# Altium integrated library Library.IntLib: 629 symbols (part 11 of 21)
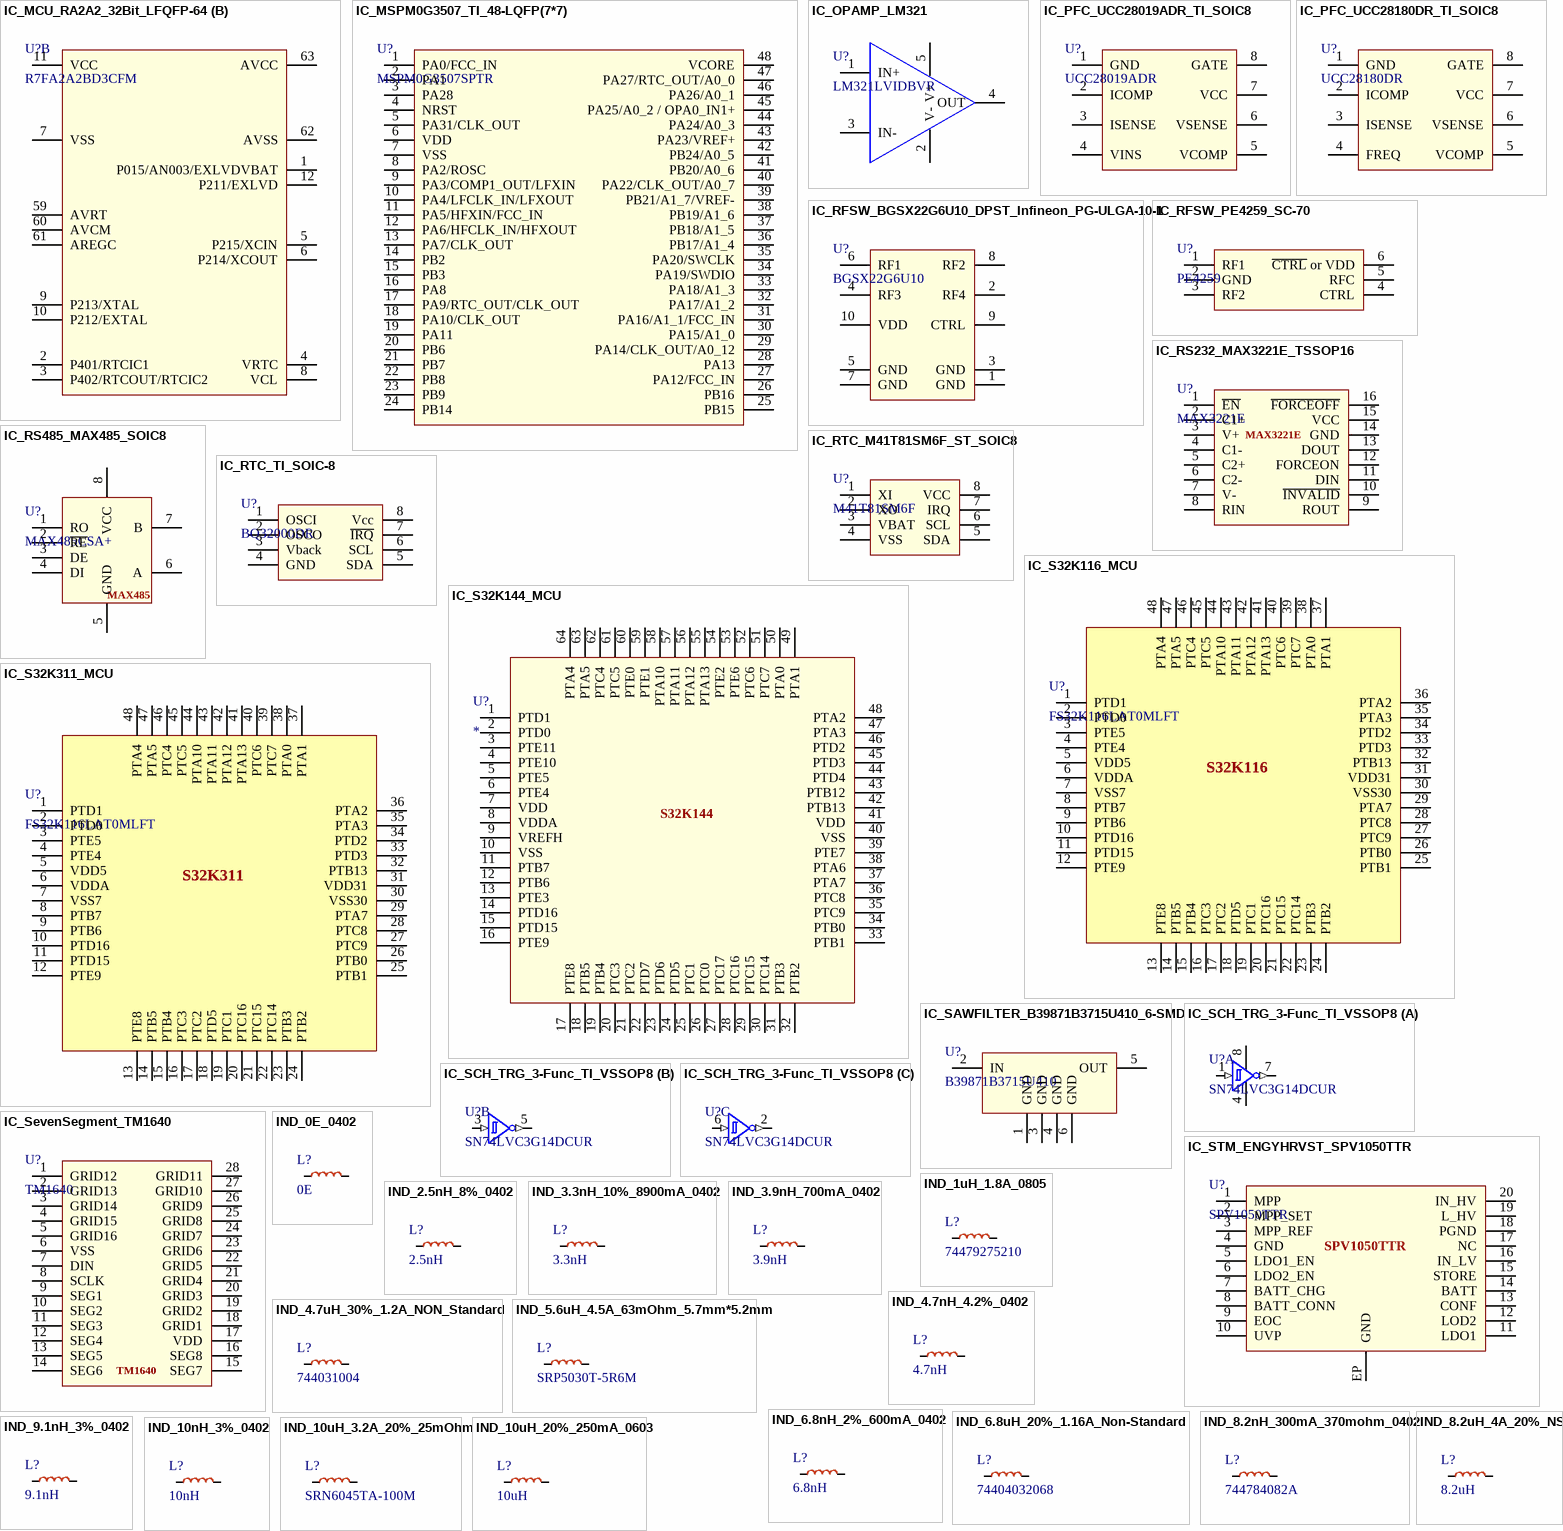
[diagram p28: symbols IC_MCU_RA2A2_32Bit_LFQFP-64 to IND_10uH_20%_250mA_0603]

## IC_RS485_MAX485_SOIC8
designator U?, comment MAX485CSA+
Line Transceiver, 1 Func, 1 Driver, 1 Rcvr, CMOS, PDSO8; Manufacturer: Maxim; Package Body Material: Plastic; Output Polarity: Complementary; Differential Output: Yes; Driver Number of Bits: 1; High Level Input Current-Max: 1mA; Input Characteristics: DIFFERENTIAL SCHMITT TRIGGER; Out Swing-Min: 1.5V; Output Low Current-Max: 4mA; Package Equivalence Code: SOP8,.25; Power Supplies: 5V; Receive Delay-Max: 200ns; Max Supply Current: 900uA; Max Supply Voltage: 5.25V; Min Supply Voltage: 4.75V; Transmit Delay-Max: 60ns; Output Characteristics: 3-STATE; Qualification Status: Not Qualified; Supplier: Mouser; Supplier Part Number: 700-MAX485CSA; Manufacturer Part Number: MAX485CSA+; RoHS: Yes; Category: Buffers, Drivers and Transceivers; Stock: 4091; Pricing: 1=6.21, 10=3.55, 50=3.55, 100=2.92, 1000=2.4, 10000=2.39 (USD); Case/Package: SOP; Pins: 8; Package Shape: Rectangular; Terminal Finish: Tin; Min Operating Temperature: 0°C; Max Operating Temperature: 70°C; JESD-609 Code: e3; Interface IC Type: LINE TRANSCEIVER; JESD-30 Code: R-PDSO-G8; Moisture Sensitivity Level: 1; Channels: 1; Package Style: SMALL OUTLINEMeter; Peak Reflow Temperature (Cel): 260°C; Receiver Number of Bits: 1; Nominal Supply Voltage: 5V; Surface Mount: Yes; Technology: CMOS; Terminal Form: Gull Wing; Terminal Position: DUAL; Length: 4.9mm; Width: 3.9mm; Height - Seated (Max): 1.75mm; Terminal Pitch: 1.27mm; Temperature Grade: COMMERCIAL; Reach SVHC Compliant: Yes; RoHS Compliant: Yes; ComponentLink1URL: https://datasheet.ciiva.com:443/pdfs/VipMasterIC/IC/MAXM/MAXMS13366/MAXMS13366-1.pdf?src-supplier=IHS+Markit; ComponentLink1Description: https://datasheet.ciiva.com:443/pdfs/VipMasterIC/IC/MAXM/MAXMS13366/MAXMS13366-1.pdf?src-supplier=IHS+Markit; ComponentLink2URL: https://datasheet.ciiva.com/29306/170071-da-01-en-ic-max485csa-so8-29306144.pdf?src-supplier=Conrad; ComponentLink2Description: https://datasheet.ciiva.com/29306/170071-da-01-en-ic-max485csa-so8-29306144.pdf?src-supplier=Conrad; ComponentLink3URL: https://datasheet.ciiva.com/14152/jwmax481-491-data-e-14152715.pdf?src-supplier=Distrelec; ComponentLink3Description: https://datasheet.ciiva.com/14152/jwmax481-491-data-e-14152715.pdf?src-supplier=Distrelec; ComponentLink4URL: https://datasheet.ciiva.com/3028/max1487-max491-3028651.pdf?src-supplier=Avnet; ComponentLink4Description: https://datasheet.ciiva.com/3028/max1487-max491-3028651.pdf?src-supplier=Avnet; ComponentLink5URL: https://datasheet.ciiva.com/1712/max1487-max491-1712621.pdf?src-supplier=Digikey; ComponentLink5Description: https://datasheet.ciiva.com/1712/max1487-max491-1712621.pdf?src-supplier=Digikey
footprint SO-8 (1.27mm pitch)
pins: 1 RO, 2 ~{RE}, 3 DE, 4 DI, 5 GND, 6 A, 7 B, 8 VCC
text: MAX485

## IC_RTC_M41T81SM6F_ST_SOIC8
designator U?, comment M41T81SM6F
Real Time Clock, Volatile, 1 Timer(s), CMOS, PDSO8; Manufacturer: STMicroelectronics; Package Body Material: Plastic; Clock Frequency: 32kHz; Number of Timers/Counters: 1; Package Equivalence Code: SOP8,.25; Power Supplies: 3/5V; Max Supply Voltage: 5.5V; Min Supply Voltage: 2.7V; Nominal Supply Voltage: 5V; Time @ Peak Reflow Temperature-Max (s): 30s; Qualification Status: Not Qualified; Supplier: Mouser; Supplier Part Number: 511-M41T81SM6F; Manufacturer Part Number: M41T81SM6F; RoHS: Yes; Category: Real Time Clocks; Stock: 19773; Pricing: 1=2.87, 10=1.96, 50=1.96, 100=1.77, 1000=1.56, 10000=1.41 (USD); Case/Package: SOP; Pins: 8; Package Shape: Rectangular; Terminal Finish: Nickel; Min Operating Temperature: -40°C; Max Operating Temperature: 85°C; JESD-609 Code: e4; JESD-30 Code: R-PDSO-G8; Moisture Sensitivity Level: 1; Package Style: SMALL OUTLINEMeter; Peak Reflow Temperature (Cel): 260°C; Surface Mount: Yes; Technology: CMOS; Terminal Form: Gull Wing; Terminal Position: DUAL; Length: 4.9mm; Width: 3.9mm; Height - Seated (Max): 1.75mm; Terminal Pitch: 1.27mm; Temperature Grade: INDUSTRIAL; Reach SVHC Compliant: Yes; RoHS Compliant: Yes; ComponentLink1URL: https://datasheet.ciiva.com:443/pdfs/VipMasterIC/IC/SGST/SGSTS32450/SGSTS32450-1.pdf?src-supplier=IHS+Markit; ComponentLink1Description: https://datasheet.ciiva.com:443/pdfs/VipMasterIC/IC/SGST/SGSTS32450/SGSTS32450-1.pdf?src-supplier=IHS+Markit; ComponentLink2URL: https://datasheet.ciiva.com/4772/cd00043080-111671-4772129.pdf?src-supplier=Mouser; ComponentLink2Description: https://datasheet.ciiva.com/4772/cd00043080-111671-4772129.pdf?src-supplier=Mouser; ComponentLink3URL: https://datasheet.ciiva.com/23806/cd00043080-23806640.pdf?src-supplier=Newark; ComponentLink3Description: https://datasheet.ciiva.com/23806/cd00043080-23806640.pdf?src-supplier=Newark; ComponentLink4URL: https://datasheet.ciiva.com/48465/cd00043080-48465097.pdf?src-supplier=Avnet; ComponentLink4Description: https://datasheet.ciiva.com/48465/cd00043080-48465097.pdf?src-supplier=Avnet; ComponentLink5URL: https://datasheet.ciiva.com/16219/cd00043080-16219615.pdf?src-supplier=Future+Electronics; ComponentLink5Description: https://datasheet.ciiva.com/16219/cd00043080-16219615.pdf?src-supplier=Future+Electronics
footprint SO-8 (1.27mm pitch)
pins: 1 XI, 2 XO, 3 VBAT, 4 VSS, 5 SDA, 6 SCL, 7 IRQ, 8 VCC

## IC_RTC_TI_SOIC-8
designator U?, comment BQ32000DR
Real Time Clock, Non-Volatile, CMOS, PDSO8; Manufacturer: Texas Instruments; Package Body Material: Plastic; Clock Frequency: 32kHz; Package Equivalence Code: SOP8,.25; Power Supplies: 3.3V; Max Supply Voltage: 3.6V; Min Supply Voltage: 3V; Qualification Status: Not Qualified; Supplier: Mouser; Supplier Part Number: 595-BQ32000DR; Manufacturer Part Number: BQ32000DR; RoHS: Yes; Category: Real Time Clocks; Stock: 9245; Pricing: 1=1.54, 10=0.986, 50=0.986, 100=0.798, 1000=0.71, 10000=0.637 (USD); Case/Package: SOP; Pins: 8; Package Shape: Rectangular; Terminal Finish: Nickel; Min Operating Temperature: -40°C; Max Operating Temperature: 85°C; JESD-609 Code: e4; JESD-30 Code: R-PDSO-G8; Moisture Sensitivity Level: 1; Package Style: SMALL OUTLINEMeter; Peak Reflow Temperature (Cel): 260°C; Nominal Supply Voltage: 3.3V; Surface Mount: Yes; Technology: CMOS; Terminal Form: Gull Wing; Terminal Position: DUAL; Length: 4.9mm; Width: 3.9mm; Height - Seated (Max): 1.75mm; Terminal Pitch: 1.27mm; Temperature Grade: INDUSTRIAL; Reach SVHC Compliant: Yes; RoHS Compliant: Yes; ComponentLink1URL: https://www.ti.com:443/lit/ds/symlink/bq32000.pdf?src-supplier=IHS+Markit; ComponentLink1Description: https://www.ti.com:443/lit/ds/symlink/bq32000.pdf?src-supplier=IHS+Markit; ComponentLink2URL: https://datasheet.ciiva.com/1138/1759629-1138532.pdf?src-supplier=Element14; ComponentLink2Description: https://datasheet.ciiva.com/1138/1759629-1138532.pdf?src-supplier=Element14; ComponentLink3URL: https://datasheet.ciiva.com/6666/bq32000-6666838.pdf?src-supplier=Digikey; ComponentLink3Description: https://datasheet.ciiva.com/6666/bq32000-6666838.pdf?src-supplier=Digikey; ComponentLink4URL: https://datasheet.ciiva.com/1146/bq32000-1146039.pdf?src-supplier=Newark; ComponentLink4Description: https://datasheet.ciiva.com/1146/bq32000-1146039.pdf?src-supplier=Newark; ComponentLink5URL: https://datasheet.ciiva.com/3304/bq32000-3304427.pdf?src-supplier=Avnet; ComponentLink5Description: https://datasheet.ciiva.com/3304/bq32000-3304427.pdf?src-supplier=Avnet
footprint SO-8 (1.27mm pitch)
pins: 1 OSCI, 2 OSCO, 3 Vback, 4 GND, 5 SDA, 6 SCL, 7 ~{IRQ}, 8 Vcc

## IC_S32K116_MCU
designator U?, comment FS32K116LAT0MLFT
MCU 32-Bit S32K116 ARM Cortex-M0+ RISC 128KB Flash 2.7V to 5.5V 48-Pin LQFP Tray; Manufacturer: NXP Semiconductors; Supplier 1: Digi-Key; Manufacturer Part Number: FS32K116LAT0MLFT; RoHS: Yes; Category: Microcontrollers; Stock 1: 1; Pricing 1: 1=23.54, 10=18.877, 80=16.11963, 500=15.9075 (USD); Supplier Part Number 1: 568-14729-ND
footprint S32K116_48PIN
pins: 1 PTD1, 2 PTD0, 3 PTE5, 4 PTE4, 5 VDD5, 6 VDDA, 7 VSS7, 8 PTB7, 9 PTB6, 10 PTD16, 11 PTD15, 12 PTE9, 13 PTE8, 14 PTB5, 15 PTB4, 16 PTC3, 17 PTC2, 18 PTD5, 19 PTC1, 20 PTC16, 21 PTC15, 22 PTC14, 23 PTB3, 24 PTB2, 25 PTB1, 26 PTB0, 27 PTC9, 28 PTC8, 29 PTA7, 30 VSS30, 31 VDD31, 32 PTB13, 33 PTD3, 34 PTD2, 35 PTA3, 36 PTA2, 37 PTA1, 38 PTA0, 39 PTC7, 40 PTC6, 41 PTA13, 42 PTA12, 43 PTA11, 44 PTA10, 45 PTC5, 46 PTC4, 47 PTA5, 48 PTA4
text: S32K116

## IC_S32K144_MCU
designator U?
footprint LQFP_64 (S32K144 0.5mm Pitch)
pins: 1 PTD1, 2 PTD0, 3 PTE11, 4 PTE10, 5 PTE5, 6 PTE4, 7 VDD, 8 VDDA, 9 VREFH, 10 VSS, 11 PTB7, 12 PTB6, 13 PTE3, 14 PTD16, 15 PTD15, 16 PTE9, 17 PTE8, 18 PTB5, 19 PTB4, 20 PTC3, 21 PTC2, 22 PTD7, 23 PTD6, 24 PTD5, 25 PTC1, 26 PTC0, 27 PTC17, 28 PTC16, 29 PTC15, 30 PTC14, 31 PTB3, 32 PTB2, 33 PTB1, 34 PTB0, 35 PTC9, 36 PTC8, 37 PTA7, 38 PTA6, 39 PTE7, 40 VSS, 41 VDD, 42 PTB13, 43 PTB12, 44 PTD4, 45 PTD3, 46 PTD2, 47 PTA3, 48 PTA2, 49 PTA1, 50 PTA0, 51 PTC7, 52 PTC6, 53 PTE6, 54 PTE2, 55 PTA13, 56 PTA12, 57 PTA11, 58 PTA10, 59 PTE1, 60 PTE0, 61 PTC5, 62 PTC4, 63 PTA5, 64 PTA4
text: S32K144

## IC_S32K311_MCU
designator U?, comment FS32K116LAT0MLFT
MCU 32-Bit S32K116 ARM Cortex-M0+ RISC 128KB Flash 2.7V to 5.5V 48-Pin LQFP Tray; Manufacturer: NXP Semiconductors; Supplier 1: Digi-Key; Manufacturer Part Number: FS32K116LAT0MLFT; RoHS: Yes; Category: Microcontrollers; Stock 1: 1; Pricing 1: 1=23.54, 10=18.877, 80=16.11963, 500=15.9075 (USD); Supplier Part Number 1: 568-14729-ND
footprint S32K116_48PIN
pins: 1 PTD1, 2 PTD0, 3 PTE5, 4 PTE4, 5 VDD5, 6 VDDA, 7 VSS7, 8 PTB7, 9 PTB6, 10 PTD16, 11 PTD15, 12 PTE9, 13 PTE8, 14 PTB5, 15 PTB4, 16 PTC3, 17 PTC2, 18 PTD5, 19 PTC1, 20 PTC16, 21 PTC15, 22 PTC14, 23 PTB3, 24 PTB2, 25 PTB1, 26 PTB0, 27 PTC9, 28 PTC8, 29 PTA7, 30 VSS30, 31 VDD31, 32 PTB13, 33 PTD3, 34 PTD2, 35 PTA3, 36 PTA2, 37 PTA1, 38 PTA0, 39 PTC7, 40 PTC6, 41 PTA13, 42 PTA12, 43 PTA11, 44 PTA10, 45 PTC5, 46 PTC4, 47 PTA5, 48 PTA4
text: S32K311

## IC_SAWFILTER_B39871B3715U410_6-SMD
designator U?, comment B39871B3715U410
SAW Filter, 1 Function(s), 869MHz, 6 Pin(s), Ceramic; Manufacturer: TDK EPCOS; Input Impedance: 50R; Insertion Loss-Max: 3.3dB; Channels: 1; Supplier: Farnell; Supplier Part Number: 2309080RL; Manufacturer Part Number: B39871B3715U410; RoHS: Yes; Category: EMI / RFI Components; Pricing: 100=0.846, 200=0.787, 1000=0.681 (GBP); Mounting Technology: Surface Mount; Pins: 6; Package Material: Ceramic; Terminal Finish: Gold; Min Operating Temperature: -40°C; Max Operating Temperature: 85°C; JESD-609 Code: e4; Center or Cutoff Frequency (fo/fc): 869MHz; Filter Type: SAW FILTER; Output Impedance: 50R; Length: 3mm; Width: 3mm; Height: 1.1mm; Reach SVHC Compliant: Yes; RoHS Compliant: Yes; ComponentLink1URL: https://datasheet.ciiva.com:443/pdfs/VipMasterIC/IC/EPCO/EPCOS16633/EPCOS16633-1.pdf?src-supplier=IHS+Markit; ComponentLink1Description: https://datasheet.ciiva.com:443/pdfs/VipMasterIC/IC/EPCO/EPCOS16633/EPCOS16633-1.pdf?src-supplier=IHS+Markit; ComponentLink2URL: https://datasheet.ciiva.com/11804/0900766b805368d5-11804553.pdf?src-supplier=Rs; ComponentLink2Description: https://datasheet.ciiva.com/11804/0900766b805368d5-11804553.pdf?src-supplier=Rs; ComponentLink3URL: https://datasheet.ciiva.com/4548/b3715-84099-4548240.pdf?src-supplier=Mouser; ComponentLink3Description: https://datasheet.ciiva.com/4548/b3715-84099-4548240.pdf?src-supplier=Mouser; ComponentLink4URL: https://datasheet.ciiva.com/6203/b39871b3715u410-6203338.pdf?src-supplier=Digikey; ComponentLink4Description: https://datasheet.ciiva.com/6203/b39871b3715u410-6203338.pdf?src-supplier=Digikey; ComponentLink5URL: https://datasheet.ciiva.com/6203/b39871b3715u410-6203342.pdf?src-supplier=Digikey; ComponentLink5Description: https://datasheet.ciiva.com/6203/b39871b3715u410-6203342.pdf?src-supplier=Digikey
footprint B39871B3715U410_6-SMD
pins: 1 GND, 2 IN, 3 GND, 4 GND, 5 OUT, 6 GND

## IC_SCH_TRG_3-Func_TI_VSSOP8
designator U?, comment SN74LVC3G14DCUR
Inverter, LVC/LCX/Z Series, 3-Func, 1-Input, CMOS, PDSO8; Manufacturer: Texas Instruments; Package Body Material: Plastic; Load Capacitance (CL): 50pF; Load/Preset Input: Yes; Max I(ol): 24mA; Channels: 3; Number of Inputs: 1; Power Supplies: 3.3V; Prop. Delay@Nom-Sup: 5.4ns; Propagation Delay (tpd): 9.7ns; Max Supply Voltage: 5.5V; Min Supply Voltage: 1.65V; Nominal Supply Voltage: 1.8V; Qualification Status: Not Qualified; Supplier: Mouser; Supplier Part Number: 595-SN74LVC3G14DCUR; Manufacturer Part Number: SN74LVC3G14DCUR; RoHS: Yes; Category: Logic Gates; Stock: 58804; Pricing: 1=0.34, 10=0.239, 50=0.22, 100=0.19, 1000=0.151, 10000=0.142 (USD); Case/Package: VSSOP; Pins: 8; Package Shape: Rectangular; Terminal Finish: Nickel; Min Operating Temperature: -40°C; Max Operating Temperature: 125°C; JESD-30 Code: R-PDSO-G8; Logic Type: INVERTER; Package Style: SMALL OUTLINE, VERY THIN PROFILE, SHRINK PITCHMeter; Packaging: Tape and Reel; Schmitt Trigger: Yes; Surface Mount: Yes; Technology: CMOS; Terminal Form: Gull Wing; Terminal Position: DUAL; JESD-609 Code: e4; Moisture Sensitivity Level: 1; Peak Reflow Temperature (Cel): 260°C; Length: 2.3mm; Width: 2mm; Height - Seated (Max): 0.9mm; Terminal Pitch: 0.5mm; Temperature Grade: AUTOMOTIVE; Reach SVHC Compliant: Yes; RoHS Compliant: Yes; ComponentLink1URL: https://www.ti.com:443/lit/ds/symlink/sn74lvc3g14.pdf?src-supplier=IHS+Markit; ComponentLink1Description: https://www.ti.com:443/lit/ds/symlink/sn74lvc3g14.pdf?src-supplier=IHS+Markit; ComponentLink2URL: https://datasheet.ciiva.com/15089/getdatasheetpartid-306358-15089584.pdf?src-supplier=Verical; ComponentLink2Description: https://datasheet.ciiva.com/15089/getdatasheetpartid-306358-15089584.pdf?src-supplier=Verical; ComponentLink3URL: https://datasheet.ciiva.com/6124/1768096-6124835.pdf?src-supplier=Farnell; ComponentLink3Description: https://datasheet.ciiva.com/6124/1768096-6124835.pdf?src-supplier=Farnell; ComponentLink4URL: https://datasheet.ciiva.com/7783/1768096-7783558.pdf?src-supplier=Element14; ComponentLink4Description: https://datasheet.ciiva.com/7783/1768096-7783558.pdf?src-supplier=Element14; ComponentLink5URL: https://datasheet.ciiva.com/1865/sn74lvc3g14-1865828.pdf?src-supplier=Digikey; ComponentLink5Description: https://datasheet.ciiva.com/1865/sn74lvc3g14-1865828.pdf?src-supplier=Digikey; ComponentLink6URL: https://datasheet.ciiva.com/14288/sn74lvc3g14-14288332.pdf?src-supplier=Avnet; ComponentLink6Description: https://datasheet.ciiva.com/14288/sn74lvc3g14-14288332.pdf?src-supplier=Avnet; ComponentLink7URL: https://datasheet.ciiva.com/14288/sn74lvc3g14-14288331.pdf?src-supplier=Avnet; ComponentLink7Description: https://datasheet.ciiva.com/14288/sn74lvc3g14-14288331.pdf?src-supplier=Avnet; ComponentLink8URL: https://datasheet.ciiva.com/7783/1768096-7783557.pdf?src-supplier=Element14; ComponentLink8Description: https://datasheet.ciiva.com/7783/1768096-7783557.pdf?src-supplier=Element14; ComponentLink9URL: https://datasheet.ciiva.com/46383/1847417-46383190.pdf?src-supplier=Element14; ComponentLink9Description: https://datasheet.ciiva.com/46383/1847417-46383190.pdf?src-supplier=Element14; ComponentLink10URL: https://datasheet.ciiva.com/1865/sn74lvc3g14-1865827.pdf?src-supplier=Digikey; ComponentLink10Description: https://datasheet.ciiva.com/1865/sn74lvc3g14-1865827.pdf?src-supplier=Digikey; ComponentLink11URL: https://datasheet.ciiva.com/1865/sn74lvc3g14-1865829.pdf?src-supplier=Digikey; ComponentLink11Description: https://datasheet.ciiva.com/1865/sn74lvc3g14-1865829.pdf?src-supplier=Digikey
footprint VSSOP-8
part A pins: 1 1A (in), 4 GND, 7 1Y (out), 8 VCC
part B pins: 3 2A (in), 5 2Y (out)
part C pins: 2 3Y (out), 6 3A (in)

## IC_SevenSegment_TM1640
designator U?, comment TM1640
pins: 1 GRID12, 2 GRID13, 3 GRID14, 4 GRID15, 5 GRID16, 6 VSS, 7 DIN, 8 SCLK, 9 SEG1, 10 SEG2, 11 SEG3, 12 SEG4, 13 SEG5, 14 SEG6, 15 SEG7, 16 SEG8, 17 VDD, 18 GRID1, 19 GRID2, 20 GRID3, 21 GRID4, 22 GRID5, 23 GRID6, 24 GRID7, 25 GRID8, 26 GRID9, 27 GRID10, 28 GRID11

## IC_STM_ENGYHRVST_SPV1050TTR
designator U?, comment SPV1050TTR
Charger IC Multi-Chemistry 20-VFQFPN (3x3); Manufacturer: STMicroelectronics; Adjustable Threshold: No; Throw Configuration: POWER SUPPLY SUPPORT CIRCUIT; Number of Channels: 1; Max Supply Voltage: 5.3V; Min Supply Voltage: 2.2V; Supplier: Arrow Electronics; Supplier Part Number: SPV1050TTR; Manufacturer Part Number: SPV1050TTR; RoHS: Yes; Category: Battery Management; Stock: 35990; Pricing: 1=3.088, 10=2.25, 100=2.02, 250=1.903, 500=1.827, 1000=1.731, 2500=1.702, 4000=1.629 (USD); Case/Package: HVQCCN; Pins: 20; Package Shape: Square; Min Operating Temperature: -40°C; Max Operating Temperature: 85°C; JESD-30 Code: S-XQCC-N20; Channels: 1; Package Style: CHIP CARRIER, HEAT SINK/SLUG, VERY THIN PROFILEMeter; Surface Mount: Yes; Terminal Form: No Lead; Terminal Position: QUAD; Length: 3mm; Width: 3mm; Height - Seated (Max): 1mm; Terminal Pitch: 0.4mm; Temperature Grade: INDUSTRIAL; Reach SVHC Compliant: Yes; RoHS Compliant: Yes; ComponentLink1URL: https://datasheet.ciiva.com:443/pdfs/VipMasterIC/IC/SGST/SGST-S-A0005002397/SGST-S-A0005002397-1.pdf?src-supplier=IHS+Markit; ComponentLink1Description: https://datasheet.ciiva.com:443/pdfs/VipMasterIC/IC/SGST/SGST-S-A0005002397/SGST-S-A0005002397-1.pdf?src-supplier=IHS+Markit; ComponentLink2URL: http://www.farnell.com/datasheets/2291180.pdf?src-supplier=Farnell; ComponentLink2Description: http://www.farnell.com/datasheets/2291180.pdf?src-supplier=Farnell; ComponentLink3URL: http://www.mouser.com/ds/2/389/spv1050-974147.pdf?src-supplier=Mouser; ComponentLink3Description: http://www.mouser.com/ds/2/389/spv1050-974147.pdf?src-supplier=Mouser; ComponentLink4URL: http://www.st.com/content/ccc/resource/technical/document/datasheet/3e/91/0f/7c/32/3e/46/dd/DM00100984.pdf/files/DM00100984.pdf/jcr:content/translations/en.DM00100984.pdf?src-supplier=Digikey; ComponentLink4Description: http://www.st.com/content/ccc/resource/technical/document/datasheet/3e/91/0f/7c/32/3e/46/dd/DM00100984.pdf/files/DM00100984.pdf/jcr:content/translations/en.DM00100984.pdf?src-supplier=Digikey; ComponentLink5URL: http://www.st.com/web/en/resource/technical/document/datasheet/DM00100984.pdf?src-supplier=Avnet; ComponentLink5Description: http://www.st.com/web/en/resource/technical/document/datasheet/DM00100984.pdf?src-supplier=Avnet; ComponentLink6URL: http://www.farnell.com/datasheets/2291180.pdf?src-supplier=Newark; ComponentLink6Description: http://www.farnell.com/datasheets/2291180.pdf?src-supplier=Newark; ComponentLink7URL: https://datasheet.octopart.com/SPV1050TTR-STMicroelectronics-datasheet-21100225.pdf?src-supplier=Future+Electronics; ComponentLink7Description: https://datasheet.octopart.com/SPV1050TTR-STMicroelectronics-datasheet-21100225.pdf?src-supplier=Future+Electronics; ComponentLink8URL: https://datasheet.octopart.com/SPV1050TTR-STMicroelectronics-datasheet-82987336.pdf?src-supplier=SHENGYU+ELECTRONICS; ComponentLink8Description: https://datasheet.octopart.com/SPV1050TTR-STMicroelectronics-datasheet-82987336.pdf?src-supplier=SHENGYU+ELECTRONICS
footprint VFQFPN20 (3mm*3mm*1mm 20 lead 0.4mm pitch)
pins: 1 MPP, 2 MPP_SET, 3 MPP_REF, 4 GND, 5 LDO1_EN, 6 LDO2_EN, 7 BATT_CHG, 8 BATT_CONN, 9 EOC, 10 UVP, 11 LDO1, 12 LOD2, 13 CONF, 14 BATT, 15 STORE, 16 IN_LV, 17 NC, 18 PGND, 19 L_HV, 20 IN_HV, EP GND

## IND_0E_0402
designator L?, comment 0E
Inductor 0E
footprint RES_0402
pins: 1, 2 1

## IND_1uH_1.8A_0805
designator L?, comment 74479275210
General Purpose Inductor; Manufacturer: Wurth Electronics; Supplier: Digikey; Supplier Part Number: 732-9707-1-ND; Manufacturer Part Number: 74479275210; RoHS: Yes; Category: Fixed Inductors; Stock: 7843; Pricing: 1=1.14, 50=0.9504, 100=0.8235, 1000=0.7488 (USD); Inductor Type: GENERAL PURPOSE INDUCTOR; Reach SVHC Compliant: Yes; RoHS Compliant: Yes; ComponentLink1URL: https://datasheet.ciiva.com:443/pdfs/VipMasterIC/IC/MIDC/MIDC-S-A0003062405/MIDC-S-A0003062405-1.pdf?src-supplier=IHS+Markit; ComponentLink1Description: https://datasheet.ciiva.com:443/pdfs/VipMasterIC/IC/MIDC/MIDC-S-A0003062405/MIDC-S-A0003062405-1.pdf?src-supplier=IHS+Markit; ComponentLink2URL: https://www.mouser.com/ds/2/445/74479275210-846428.pdf?src-supplier=Mouser; ComponentLink2Description: https://www.mouser.com/ds/2/445/74479275210-846428.pdf?src-supplier=Mouser; ComponentLink3URL: http://www.farnell.com/datasheets/2040023.pdf?src-supplier=Farnell; ComponentLink3Description: http://www.farnell.com/datasheets/2040023.pdf?src-supplier=Farnell; ComponentLink4URL: http://www.farnell.com/datasheets/2040023.pdf?src-supplier=Element14; ComponentLink4Description: http://www.farnell.com/datasheets/2040023.pdf?src-supplier=Element14; ComponentLink5URL: https://katalog.we-online.de/pbs/datasheet/74479275210.pdf?src-supplier=Digikey; ComponentLink5Description: https://katalog.we-online.de/pbs/datasheet/74479275210.pdf?src-supplier=Digikey
footprint RES_0805
pins: 1, 2 1

## IND_2.5nH_8%_0402
designator L?, comment 2.5nH
General Purpose Inductor, 0.0025uH, 8%, 1 Element, Alumina-Core, SMD, 0402; Manufacturer: Murata; Manufacturer Part Number: LQW15AN2N5C00D; Case/Size Code: 0402; DC Resistance (DCR): 50mR; Inductor Application: RF INDUCTOR; Channels: 1; Quality Factor-Min (at L-nom): 20; Max Current Rating: 850mA; Self Resonant Frequency: 15GHz; Shape/Size Description: RECTANGULAR PACKAGE; Shielding: Unshielded; Test Frequency: 100MHz; Package Height: 0.5mm; Package Length: 1mm; Package Width: 0.6mm; Supplier: Mouser; Supplier Part Number: 81-LQW15AN2N5C00D; RoHS: Yes; Category: Fixed Inductors; Stock: 23249; Pricing: 1=0.1, 10=0.061, 50=0.061, 100=0.05, 1000=0.046, 10000=0.039 (USD); Pins: 2; Core Material: Alumina; Terminal Finish: Nickel; Min Operating Temperature: -55°C; Max Operating Temperature: 125°C; Tolerance: 8%; JESD-609 Code: e3; Construction: Wirewound Chip; Inductance-Nom (L): 0.0025uH; Inductor Type: GENERAL PURPOSE INDUCTOR; Package Style: SMTMeter; Packaging: Tape and Reel; Surface Mount: Yes; Terminal Placement: Dual Ended; Termination: One Surface; Reach SVHC Compliant: Yes; RoHS Compliant: Yes; ComponentLink1URL: https://datasheet.ciiva.com:443/pdfs/VipMasterIC/IC/MURE/MURE-S-A0004390706/MURE-S-A0004390650-1.pdf?src-supplier=IHS+Markit; ComponentLink1Description: https://datasheet.ciiva.com:443/pdfs/VipMasterIC/IC/MURE/MURE-S-A0004390706/MURE-S-A0004390650-1.pdf?src-supplier=IHS+Markit; ComponentLink2URL: https://datasheet.ciiva.com/6705/l0075s0080lqw15a-00-6705365.pdf?src-supplier=Digikey; ComponentLink2Description: https://datasheet.ciiva.com/6705/l0075s0080lqw15a-00-6705365.pdf?src-supplier=Digikey; ComponentLink3URL: https://datasheet.ciiva.com/6705/l0075s0080lqw15a-00-6705366.pdf?src-supplier=Digikey; ComponentLink3Description: https://datasheet.ciiva.com/6705/l0075s0080lqw15a-00-6705366.pdf?src-supplier=Digikey; ComponentLink4URL: https://datasheet.ciiva.com/8507/l0075s0080lqw15a-00-8507644.pdf?src-supplier=Avnet; ComponentLink4Description: https://datasheet.ciiva.com/8507/l0075s0080lqw15a-00-8507644.pdf?src-supplier=Avnet; ComponentLink5URL: https://datasheet.ciiva.com/4977/product-4977756.pdf?src-supplier=Mouser; ComponentLink5Description: https://datasheet.ciiva.com/4977/product-4977756.pdf?src-supplier=Mouser
footprint RES_0402
pins: 1, 2 1

## IND_3.3nH_10%_8900mA_0402
designator L?, comment 3.3nH
General Purpose Inductor, 0.0033uH, 9.091%, 1 Element, Air-Core, SMD, 0402; Manufacturer: Murata; Manufacturer Part Number: LQG15HS3N3S02D; Core Material: Air; Case/Size Code: 0402; DC Resistance (DCR): 125mR; Inductor Application: RF INDUCTOR; Channels: 1; Quality Factor-Min (at L-nom): 8; Max Current Rating: 800mA; Self Resonant Frequency: 6GHz; Shape/Size Description: RECTANGULAR PACKAGE; Shielding: Unshielded; Test Frequency: 100MHz; Package Height: 0.5mm; Package Length: 1mm; Supplier: Mouser; Supplier Part Number: 81-LQG15HS3N3S02D; RoHS: Yes; Category: Fixed Inductors; Stock: 23881; Pricing: 1=0.1, 10=0.039, 50=0.039, 100=0.03, 1000=0.028, 10000=0.02 (USD); Pins: 2; Terminal Finish: Nickel; Min Operating Temperature: -55°C; Max Operating Temperature: 125°C; Tolerance: 9.091%; JESD-609 Code: e3; Construction: Multilayer Chip; Inductance-Nom (L): 0.0033uH; Inductor Type: GENERAL PURPOSE INDUCTOR; Package Style: SMTMeter; Packaging: Tape and Reel; Surface Mount: Yes; Terminal Placement: Dual Ended; Termination: Wraparound; Package Width: 0.5mm; Reach SVHC Compliant: Yes; RoHS Compliant: Yes; ComponentLink1URL: https://datasheet.ciiva.com:443/pdfs/VipMasterIC/IC/MURE/MURE-S-A0004278247/MURE-S-A0004278708-1.pdf?src-supplier=IHS+Markit; ComponentLink1Description: https://datasheet.ciiva.com:443/pdfs/VipMasterIC/IC/MURE/MURE-S-A0004278247/MURE-S-A0004278708-1.pdf?src-supplier=IHS+Markit; ComponentLink2URL: https://datasheet.ciiva.com/11799/0900766b8090d685-11799072.pdf?src-supplier=Rs; ComponentLink2Description: https://datasheet.ciiva.com/11799/0900766b8090d685-11799072.pdf?src-supplier=Rs; ComponentLink3URL: https://datasheet.ciiva.com/1038/l0075s0083lqg15hs-1038143.pdf?src-supplier=Digikey; ComponentLink3Description: https://datasheet.ciiva.com/1038/l0075s0083lqg15hs-1038143.pdf?src-supplier=Digikey; ComponentLink4URL: https://datasheet.ciiva.com/1038/l0075s0083lqg15hs-1038142.pdf?src-supplier=Digikey; ComponentLink4Description: https://datasheet.ciiva.com/1038/l0075s0083lqg15hs-1038142.pdf?src-supplier=Digikey; ComponentLink5URL: https://datasheet.ciiva.com/4976/o05e-4976661.pdf?src-supplier=Mouser; ComponentLink5Description: https://datasheet.ciiva.com/4976/o05e-4976661.pdf?src-supplier=Mouser; ComponentLink6URL: https://datasheet.ciiva.com/26821/getdatasheetpartid-200403-26821446.pdf?src-supplier=Verical; ComponentLink6Description: https://datasheet.ciiva.com/26821/getdatasheetpartid-200403-26821446.pdf?src-supplier=Verical; ComponentLink7URL: https://datasheet.ciiva.com/1038/l0075s0083lqg15hs-1038144.pdf?src-supplier=Digikey; ComponentLink7Description: https://datasheet.ciiva.com/1038/l0075s0083lqg15hs-1038144.pdf?src-supplier=Digikey
footprint RES_0402
pins: 1, 2 1

## IND_3.9nH_700mA_0402
designator L?, comment 3.9nH
General Purpose Inductor, 0.0039uH, 7.692%, 1 Element, Air-Core, SMD, 0402; Manufacturer: Murata; Manufacturer Part Number: LQG15HN3N9S02D; Core Material: Air; Case/Size Code: 0402; DC Resistance (DCR): 130mR; Inductor Application: RF INDUCTOR; Channels: 1; Quality Factor-Min (at L-nom): 8; Max Current Rating: 700mA; Self Resonant Frequency: 6GHz; Shape/Size Description: RECTANGULAR PACKAGE; Shielding: Unshielded; Test Frequency: 100MHz; Package Height: 0.5mm; Package Length: 1mm; Supplier: Mouser; Supplier Part Number: 81-LQG15HN3N9S02D; RoHS: Yes; Category: Fixed Inductors; Stock: 22811; Pricing: 1=0.1, 10=0.039, 50=0.039, 100=0.031, 1000=0.025, 10000=0.02 (USD); Pins: 2; Terminal Finish: Nickel; Min Operating Temperature: -55°C; Max Operating Temperature: 125°C; Tolerance: 7.692%; JESD-609 Code: e3; Construction: Multilayer Chip; Inductance-Nom (L): 0.0039uH; Inductor Type: GENERAL PURPOSE INDUCTOR; Package Style: SMTMeter; Packaging: Tape and Reel; Surface Mount: Yes; Terminal Placement: Dual Ended; Termination: Wraparound; Package Width: 0.5mm; Reach SVHC Compliant: Yes; RoHS Compliant: Yes; ComponentLink1URL: https://datasheet.ciiva.com:443/pdfs/VipMasterIC/IC/MURE/MURE-S-A0004224658/MURE-S-A0004277854-1.pdf?src-supplier=IHS+Markit; ComponentLink1Description: https://datasheet.ciiva.com:443/pdfs/VipMasterIC/IC/MURE/MURE-S-A0004224658/MURE-S-A0004277854-1.pdf?src-supplier=IHS+Markit; ComponentLink2URL: https://datasheet.ciiva.com/11801/0900766b80f10808-11801419.pdf?src-supplier=Rs; ComponentLink2Description: https://datasheet.ciiva.com/11801/0900766b80f10808-11801419.pdf?src-supplier=Rs; ComponentLink3URL: https://datasheet.ciiva.com/5740/66026-5740749.pdf?src-supplier=Farnell; ComponentLink3Description: https://datasheet.ciiva.com/5740/66026-5740749.pdf?src-supplier=Farnell; ComponentLink4URL: https://datasheet.ciiva.com/5740/66026-5740750.pdf?src-supplier=Farnell; ComponentLink4Description: https://datasheet.ciiva.com/5740/66026-5740750.pdf?src-supplier=Farnell; ComponentLink5URL: https://datasheet.ciiva.com/1063/l0075s0083lqg15hn-1063842.pdf?src-supplier=Digikey; ComponentLink5Description: https://datasheet.ciiva.com/1063/l0075s0083lqg15hn-1063842.pdf?src-supplier=Digikey
footprint RES_0402
pins: 1, 2 1

## IND_4.7nH_4.2%_0402
designator L?, comment 4.7nH
General Purpose Inductor, 0.0047uH, 4.255%, 1 Element, Alumina-Core, SMD, 0402; Manufacturer: Murata; Manufacturer Part Number: LQW15AN4N7C00D; Case/Size Code: 0402; DC Resistance (DCR): 70mR; Inductor Application: RF INDUCTOR; Channels: 1; Quality Factor-Min (at L-nom): 25; Max Current Rating: 750mA; Self Resonant Frequency: 8GHz; Shape/Size Description: RECTANGULAR PACKAGE; Shielding: Unshielded; Test Frequency: 100MHz; Package Height: 0.5mm; Package Length: 1mm; Package Width: 0.6mm; Supplier: Mouser; Supplier Part Number: 81-LQW15AN4N7C00D; RoHS: Yes; Category: Fixed Inductors; Stock: 21541; Pricing: 1=0.14, 10=0.087, 50=0.087, 100=0.07, 1000=0.059, 10000=0.049 (USD); Pins: 2; Core Material: Alumina; Terminal Finish: Nickel; Min Operating Temperature: -55°C; Max Operating Temperature: 125°C; Tolerance: 4.255%; JESD-609 Code: e3; Construction: Wirewound Chip; Inductance-Nom (L): 0.0047uH; Inductor Type: GENERAL PURPOSE INDUCTOR; Package Style: SMTMeter; Packaging: Tape and Reel; Surface Mount: Yes; Terminal Placement: Dual Ended; Termination: One Surface; Reach SVHC Compliant: Yes; RoHS Compliant: Yes; ComponentLink1URL: https://datasheet.ciiva.com:443/pdfs/VipMasterIC/IC/MURE/MURE-S-A0004390746/MURE-S-A0004390796-1.pdf?src-supplier=IHS+Markit; ComponentLink1Description: https://datasheet.ciiva.com:443/pdfs/VipMasterIC/IC/MURE/MURE-S-A0004390746/MURE-S-A0004390796-1.pdf?src-supplier=IHS+Markit; ComponentLink2URL: https://datasheet.ciiva.com/11799/0900766b8090d800-11799023.pdf?src-supplier=Rs; ComponentLink2Description: https://datasheet.ciiva.com/11799/0900766b8090d800-11799023.pdf?src-supplier=Rs; ComponentLink3URL: https://datasheet.ciiva.com/8507/l0075s0080lqw15a-00-8507561.pdf?src-supplier=Avnet; ComponentLink3Description: https://datasheet.ciiva.com/8507/l0075s0080lqw15a-00-8507561.pdf?src-supplier=Avnet; ComponentLink4URL: https://datasheet.ciiva.com/18089/getdatasheetpartid-153206-18089707.pdf?src-supplier=Verical; ComponentLink4Description: https://datasheet.ciiva.com/18089/getdatasheetpartid-153206-18089707.pdf?src-supplier=Verical; ComponentLink5URL: https://datasheet.ciiva.com/6690/l0075s0080lqw15a-00-6690821.pdf?src-supplier=Digikey; ComponentLink5Description: https://datasheet.ciiva.com/6690/l0075s0080lqw15a-00-6690821.pdf?src-supplier=Digikey
footprint RES_0402
pins: 1, 2 1

## IND_4.7uH_30%_1.2A_NON_Standard
designator L?, comment 744031004
General Purpose Inductor, 4.7uH, 30%, 1 Element, Ferrite-Core, SMD, 1515 / CMLW4018S4R7MST; Manufacturer: Wurth Electronics; DC Resistance (DCR): 105mR; Max Current Rating: 1.2A; Case/Size Code: 1515; Inductor Application: POWER INDUCTOR; Channels: 1; Self Resonant Frequency: 75MHz; Shape/Size Description: RECTANGULAR PACKAGE; Shielding: Unshielded; Test Frequency: 100kHz; Package Height: 1.65mm; Package Length: 3.8mm; Supplier: Digikey; Supplier Part Number: 732-1008-1-ND; Manufacturer Part Number: 744031004; RoHS: Yes; Category: Fixed Inductors; Stock: 12651; Pricing: 1=1.23, 10=1.21, 50=1.1, 100=1.06, 500=0.97 (USD); Pins: 2; Core Material: Ferrite; Terminal Finish: Copper; Min Operating Temperature: -40°C; Max Operating Temperature: 115°C; Tolerance: 30%; Inductance-Nom (L): 4.7uH; Inductor Type: GENERAL PURPOSE INDUCTOR; Construction: Chip; Package Style: SMTMeter; Packaging: Tape and Reel; Surface Mount: Yes; Terminal Placement: Dual Ended; Termination: One Surface; JESD-609 Code: e1; Package Width: 3.8mm; RoHS Compliant: Yes; Reach SVHC Compliant: Yes; ComponentLink1URL: https://datasheet.ciiva.com:443/pdfs/VipMasterIC/IC/MIDC/MIDC-S-A0002801302/MIDC-S-A0002801302-1.pdf?src-supplier=IHS+Markit; ComponentLink1Description: https://datasheet.ciiva.com:443/pdfs/VipMasterIC/IC/MIDC/MIDC-S-A0002801302/MIDC-S-A0002801302-1.pdf?src-supplier=IHS+Markit; ComponentLink2URL: https://datasheet.ciiva.com/4961/744031004-18796-4961279.pdf?src-supplier=Mouser; ComponentLink2Description: https://datasheet.ciiva.com/4961/744031004-18796-4961279.pdf?src-supplier=Mouser; ComponentLink3URL: https://datasheet.ciiva.com/11800/0900766b8079f7b1-11800238.pdf?src-supplier=Rs; ComponentLink3Description: https://datasheet.ciiva.com/11800/0900766b8079f7b1-11800238.pdf?src-supplier=Rs; ComponentLink4URL: https://datasheet.ciiva.com/7210/744031004-7210940.pdf?src-supplier=Newark; ComponentLink4Description: https://datasheet.ciiva.com/7210/744031004-7210940.pdf?src-supplier=Newark; ComponentLink5URL: https://datasheet.ciiva.com/22702/1910986-22702636.pdf?src-supplier=Element14; ComponentLink5Description: https://datasheet.ciiva.com/22702/1910986-22702636.pdf?src-supplier=Element14; ComponentLink6URL: https://datasheet.ciiva.com/14123/lm744031004-data-de-14123798.pdf?src-supplier=Distrelec; ComponentLink6Description: https://datasheet.ciiva.com/14123/lm744031004-data-de-14123798.pdf?src-supplier=Distrelec; ComponentLink7URL: https://datasheet.ciiva.com/1050/744031004-1050615.pdf?src-supplier=Digikey; ComponentLink7Description: https://datasheet.ciiva.com/1050/744031004-1050615.pdf?src-supplier=Digikey; ComponentLink8URL: https://datasheet.ciiva.com/1050/744031004-1050616.pdf?src-supplier=Digikey; ComponentLink8Description: https://datasheet.ciiva.com/1050/744031004-1050616.pdf?src-supplier=Digikey; ComponentLink9URL: https://datasheet.ciiva.com/1050/744031004-1050617.pdf?src-supplier=Digikey; ComponentLink9Description: https://datasheet.ciiva.com/1050/744031004-1050617.pdf?src-supplier=Digikey
footprint IND 4mm*4mm (744031004)
pins: 1, 2 1

## IND_5.6uH_4.5A_63mOhm_5.7mm*5.2mm
designator L?, comment SRP5030T-5R6M
General Purpose Inductor, 5.6uH, 20%, 1 Element, Powdered Iron-Core, SMD, 2220; Manufacturer: Bourns; Core Material: Ferrite; DC Resistance (DCR): 63mR; Inductor Application: POWER INDUCTOR; Channels: 1; Max Current Rating: 4.25A; Shape/Size Description: RECTANGULAR PACKAGE; Shielding: Shielded; Test Frequency: 100kHz; Supplier: Digikey; Supplier Part Number: SRP5030T-5R6MCT-ND; Manufacturer Part Number: SRP5030T-5R6M; RoHS: Yes; Category: Fixed Inductors; Stock: 3265; Pricing: 1=1.36, 10=1.15, 25=1.0452, 50=0.9826, 100=0.8154, 250=0.75264, 500=0.71084, 1000=0.64812 (USD); Pins: 2; Terminal Finish: Tin; Min Operating Temperature: -40°C; Max Operating Temperature: 125°C; Tolerance: 20%; JESD-609 Code: e3; Inductance-Nom (L): 5.6uH; Inductor Type: GENERAL PURPOSE INDUCTOR; Surface Mount: Yes; Terminal Placement: Dual Ended; Termination: Wraparound; Reach SVHC Compliant: Yes; RoHS Compliant: Yes; ComponentLink1URL: https://datasheet.ciiva.com:443/pdfs/VipMasterIC/IC/BOUR/BOUR-S-A0006601856/BOUR-S-A0006601856-1.pdf?src-supplier=IHS+Markit; ComponentLink1Description: https://datasheet.ciiva.com:443/pdfs/VipMasterIC/IC/BOUR/BOUR-S-A0006601856/BOUR-S-A0006601856-1.pdf?src-supplier=IHS+Markit; ComponentLink2URL: https://datasheet.ciiva.com/17071/70281523-17071295.pdf?src-supplier=Allied+Electronics; ComponentLink2Description: https://datasheet.ciiva.com/17071/70281523-17071295.pdf?src-supplier=Allied+Electronics; ComponentLink3URL: https://datasheet.ciiva.com/28678/1698469-28678287.pdf?src-supplier=Element14; ComponentLink3Description: https://datasheet.ciiva.com/28678/1698469-28678287.pdf?src-supplier=Element14
footprint IND_6mm*6mm (SRP5030T-5R6M)
pins: 1, 2 1

## IND_6.8nH_2%_600mA_0402
designator L?, comment 6.8nH
General Purpose Inductor, 0.0068uH, 2%, 1 Element, SMD, 0402; Manufacturer: Murata; Manufacturer Part Number: LQG15HS6N8G02D; DC Resistance (DCR): 220mR; Inductor Application: RF INDUCTOR; Channels: 1; Quality Factor-Min (at L-nom): 8; Max Current Rating: 600mA; Self Resonant Frequency: 4.5GHz; Shape/Size Description: RECTANGULAR PACKAGE; Shielding: Unshielded; Test Frequency: 100MHz; Supplier: Mouser; Supplier Part Number: 81-LQG15HS6N8G02D; RoHS: Yes; Category: Fixed Inductors; Stock: 48831; Pricing: 1=0.1, 10=0.062, 50=0.062, 100=0.048, 1000=0.038, 10000=0.031 (USD); Pins: 2; Terminal Finish: Tin; Min Operating Temperature: -55°C; Max Operating Temperature: 125°C; Tolerance: 2%; JESD-609 Code: e3; Inductance-Nom (L): 0.0068uH; Inductor Type: GENERAL PURPOSE INDUCTOR; Surface Mount: Yes; Terminal Placement: Dual Ended; Termination: Wraparound; Reach SVHC Compliant: Yes; RoHS Compliant: Yes; ComponentLink1URL: https://psearch.en.murata.com:443/inductor/product/LQG15HS6N8G02_.pdf?src-supplier=IHS+Markit; ComponentLink1Description: https://psearch.en.murata.com:443/inductor/product/LQG15HS6N8G02_.pdf?src-supplier=IHS+Markit
footprint RES_0402
pins: 1, 2 1

## IND_6.8uH_20%_1.16A_Non-Standard
designator L?, comment 74404032068
General Purpose Inductor, 6.8uH, 20%, 1 Element, Nickel-zinc Ferrite-Core, SMD, 1212; Manufacturer: Wurth Electronics; Supplier: Digikey; Supplier Part Number: 732-5496-1-ND; Manufacturer Part Number: 74404032068; RoHS: Yes; Category: Fixed Inductors; Stock: 1822; Pricing: 1=1.16, 50=0.979, 250=0.907, 500=0.813 (USD); Inductor Type: GENERAL PURPOSE INDUCTOR; Reach SVHC Compliant: Yes; RoHS Compliant: Yes; ComponentLink1URL: https://datasheet.ciiva.com:443/pdfs/VipMasterIC/IC/MIDC/MIDC-S-A0007978246/MIDC-S-A0007978239-1.pdf?src-supplier=IHS+Markit; ComponentLink1Description: https://datasheet.ciiva.com:443/pdfs/VipMasterIC/IC/MIDC/MIDC-S-A0007978246/MIDC-S-A0007978239-1.pdf?src-supplier=IHS+Markit; ComponentLink2URL: http://www.mouser.com/ds/2/445/74404032068-321438.pdf?src-supplier=Mouser; ComponentLink2Description: http://www.mouser.com/ds/2/445/74404032068-321438.pdf?src-supplier=Mouser; ComponentLink3URL: http://www.farnell.com/datasheets/1832871.pdf?src-supplier=Farnell; ComponentLink3Description: http://www.farnell.com/datasheets/1832871.pdf?src-supplier=Farnell; ComponentLink4URL: http://www.farnell.com/datasheets/1832871.pdf?src-supplier=Element14; ComponentLink4Description: http://www.farnell.com/datasheets/1832871.pdf?src-supplier=Element14
footprint IND 4mm*4mm (744031004)
pins: 1, 2 1

## IND_8.2nH_300mA_370mohm_0402
designator L?, comment 744784082A
8.2 nH Unshielded Multilayer Inductor 300 mA 370mOhm Max 0402 (1005 Metric); Manufacturer: Wurth Electronics; Inductor Type: GENERAL PURPOSE INDUCTOR; Supplier: Digikey; Supplier Part Number: 732-6232-1-ND; Manufacturer Part Number: 744784082A; RoHS: Yes; Category: Fixed Inductors; Stock: 18000; Pricing: 1=0.19, 50=0.167, 100=0.143, 500=0.131, 1000=0.119, 2000=0.101 (USD); Reach SVHC Compliant: Yes; RoHS Compliant: Yes; ComponentLink1URL: https://datasheet.ciiva.com:443/pdfs/VipMasterIC/IC/MIDC/MIDC-S-A0007978246/MIDC-S-A0008052251-1.pdf?src-supplier=IHS+Markit; ComponentLink1Description: https://datasheet.ciiva.com:443/pdfs/VipMasterIC/IC/MIDC/MIDC-S-A0007978246/MIDC-S-A0008052251-1.pdf?src-supplier=IHS+Markit; ComponentLink2URL: http://www.farnell.com/datasheets/1818733.pdf?src-supplier=Farnell; ComponentLink2Description: http://www.farnell.com/datasheets/1818733.pdf?src-supplier=Farnell; ComponentLink3URL: http://www.farnell.com/datasheets/1818733.pdf?src-supplier=Element14; ComponentLink3Description: http://www.farnell.com/datasheets/1818733.pdf?src-supplier=Element14; ComponentLink4URL: https://katalog.we-online.de/pbs/datasheet/744784082A.pdf?src-supplier=Digikey; ComponentLink4Description: https://katalog.we-online.de/pbs/datasheet/744784082A.pdf?src-supplier=Digikey
footprint RES_0402
pins: 1, 2 1

## IND_8.2uH_4A_20%_NS
designator L?, comment 8.2uH
General Purpose Inductor, 8.2uH, 20%, 1 Element, Composite-Core, SMD, 2525; Manufacturer: Vishay Dale; Manufacturer Part Number: IHLP2525CZER8R2M01; Case/Size Code: 2525; DC Resistance (DCR): 68mR; Inductor Application: HIGH CURRENT INDUCTOR; Channels: 1; Max Current Rating: 4A; Shape/Size Description: RECTANGULAR PACKAGE; Shielding: Shielded; Test Frequency: 100kHz; Package Height: 3mm; Package Length: 6.86mm; Package Width: 6.47mm; Supplier: Digi-Key; Supplier Part Number: 541-1012-1-ND; RoHS: Yes; Category: Fixed Inductors; Stock: 34091; Pricing: 1=1.05, 10=0.887, 25=0.8064, 50=0.758, 100=0.6289, 250=0.58056, 500=0.5483, 1000=0.49991 (USD); Pins: 2; Core Material: Composite; Terminal Finish: Nickel; Min Operating Temperature: -55°C; Max Operating Temperature: 125°C; Tolerance: 20%; JESD-609 Code: e3; Construction: Shielded; Inductance-Nom (L): 8.2uH; Inductor Type: GENERAL PURPOSE INDUCTOR; Package Style: SMTMeter; Packaging: Tape and Reel; Surface Mount: Yes; Terminal Placement: Dual Ended; Termination: Wraparound; Reach SVHC Compliant: Yes; RoHS Compliant: Yes; ComponentLink1URL: https://datasheet.ciiva.com:443/pdfs/VipMasterIC/IC/VISH/VISH-S-A0003500153/VISH-S-A0003500153-1.pdf?src-supplier=IHS+Markit; ComponentLink1Description: https://datasheet.ciiva.com:443/pdfs/VipMasterIC/IC/VISH/VISH-S-A0003500153/VISH-S-A0003500153-1.pdf?src-supplier=IHS+Markit; ComponentLink2URL: https://datasheet.ciiva.com/11798/0900766b8102c934-11798421.pdf?src-supplier=Rs; ComponentLink2Description: https://datasheet.ciiva.com/11798/0900766b8102c934-11798421.pdf?src-supplier=Rs; ComponentLink3URL: https://datasheet.ciiva.com/3081/lp25cz01-3081990.pdf?src-supplier=Avnet; ComponentLink3Description: https://datasheet.ciiva.com/3081/lp25cz01-3081990.pdf?src-supplier=Avnet; ComponentLink4URL: https://datasheet.ciiva.com/16348/lp25cz01-16348924.pdf?src-supplier=Future+Electronics; ComponentLink4Description: https://datasheet.ciiva.com/16348/lp25cz01-16348924.pdf?src-supplier=Future+Electronics; ComponentLink5URL: https://datasheet.ciiva.com/8017/lp25cz01-8017605.pdf?src-supplier=Element14; ComponentLink5Description: https://datasheet.ciiva.com/8017/lp25cz01-8017605.pdf?src-supplier=Element14; ComponentLink6URL: https://datasheet.ciiva.com/46393/1913191-46393003.pdf?src-supplier=Element14; ComponentLink6Description: https://datasheet.ciiva.com/46393/1913191-46393003.pdf?src-supplier=Element14
pins: 1, 2 1

## IND_9.1nH_3%_0402
designator L?, comment 9.1nH
General Purpose Inductor, 0.0091uH, 3%, 1 Element, Alumina-Core, SMD, 0402; Manufacturer: Murata; Manufacturer Part Number: LQW15AN9N1H00D; Case/Size Code: 0402; DC Resistance (DCR): 140mR; Inductor Application: RF INDUCTOR; Channels: 1; Quality Factor-Min (at L-nom): 25; Max Current Rating: 540mA; Self Resonant Frequency: 5.5GHz; Shape/Size Description: RECTANGULAR PACKAGE; Shielding: Unshielded; Test Frequency: 100MHz; Package Height: 0.5mm; Package Length: 1mm; Package Width: 0.6mm; Supplier: Mouser; Supplier Part Number: 81-LQW15AN9N1H00D; RoHS: Yes; Category: Fixed Inductors; Stock: 19951; Pricing: 1=0.14, 10=0.091, 50=0.091, 100=0.068, 1000=0.062, 10000=0.051 (USD); Pins: 2; Core Material: Alumina; Terminal Finish: Nickel; Min Operating Temperature: -55°C; Max Operating Temperature: 125°C; Tolerance: 3%; JESD-609 Code: e3; Construction: Wirewound Chip; Inductance-Nom (L): 0.0091uH; Inductor Type: GENERAL PURPOSE INDUCTOR; Package Style: SMTMeter; Packaging: Tape and Reel; Surface Mount: Yes; Terminal Placement: Dual Ended; Termination: One Surface; Reach SVHC Compliant: Yes; RoHS Compliant: Yes; ComponentLink1URL: https://datasheet.ciiva.com:443/pdfs/VipMasterIC/IC/MURE/MURE-S-A0004390706/MURE-S-A0004390570-1.pdf?src-supplier=IHS+Markit; ComponentLink1Description: https://datasheet.ciiva.com:443/pdfs/VipMasterIC/IC/MURE/MURE-S-A0004390706/MURE-S-A0004390570-1.pdf?src-supplier=IHS+Markit; ComponentLink2URL: https://datasheet.ciiva.com/11799/0900766b8090d800-11799112.pdf?src-supplier=Rs; ComponentLink2Description: https://datasheet.ciiva.com/11799/0900766b8090d800-11799112.pdf?src-supplier=Rs; ComponentLink3URL: https://datasheet.ciiva.com/4980/product-4980661.pdf?src-supplier=Mouser; ComponentLink3Description: https://datasheet.ciiva.com/4980/product-4980661.pdf?src-supplier=Mouser; ComponentLink4URL: https://datasheet.ciiva.com/8507/l0075s0080lqw15a-00-8507397.pdf?src-supplier=Avnet; ComponentLink4Description: https://datasheet.ciiva.com/8507/l0075s0080lqw15a-00-8507397.pdf?src-supplier=Avnet; ComponentLink5URL: https://datasheet.ciiva.com/29697/l0075s0080lqw15a-00-29697038.pdf?src-supplier=Digikey; ComponentLink5Description: https://datasheet.ciiva.com/29697/l0075s0080lqw15a-00-29697038.pdf?src-supplier=Digikey; ComponentLink6URL: https://datasheet.ciiva.com/29697/l0075s0080lqw15a-00-29697039.pdf?src-supplier=Digikey; ComponentLink6Description: https://datasheet.ciiva.com/29697/l0075s0080lqw15a-00-29697039.pdf?src-supplier=Digikey
footprint RES_0402
pins: 1, 2 1

## IND_10nH_3%_0402
designator L?, comment 10nH
General Purpose Inductor, 0.01uH, 3%, 1 Element, SMD, 0402; Manufacturer: Murata; Manufacturer Part Number: LQG15WZ10NH02D; DC Resistance (DCR): 190mR; Inductor Application: RF INDUCTOR; Channels: 1; Quality Factor-Min (at L-nom): 23; Max Current Rating: 500mA; Self Resonant Frequency: 3.3GHz; Shape/Size Description: RECTANGULAR PACKAGE; Shielding: Unshielded; Test Frequency: 100MHz; Reference Standard: AEC-Q200; Supplier: Mouser; Supplier Part Number: 81-LQG15WZ10NH02D; RoHS: Yes; Category: Fixed Inductors; Stock: 38736; Pricing: 1=0.13, 10=0.086, 50=0.086, 100=0.067, 1000=0.061, 10000=0.046 (USD); Pins: 2; Min Operating Temperature: -55°C; Max Operating Temperature: 125°C; Tolerance: 3%; Inductance-Nom (L): 0.01uH; Inductor Type: GENERAL PURPOSE INDUCTOR; Surface Mount: Yes; Terminal Placement: Dual Ended; Termination: Wraparound; Reach SVHC Compliant: Yes; RoHS Compliant: Yes; ComponentLink1URL: https://datasheet.ciiva.com:443/pdfs/VipMasterIC/IC/MURE/MURE-S-A0004224658/MURE-S-A0004278153-1.pdf?src-supplier=IHS+Markit; ComponentLink1Description: https://datasheet.ciiva.com:443/pdfs/VipMasterIC/IC/MURE/MURE-S-A0004224658/MURE-S-A0004278153-1.pdf?src-supplier=IHS+Markit; ComponentLink2URL: http://search.murata.co.jp/Ceramy/image/img/P02/JELF243B-9117.pdf?src-supplier=Digikey; ComponentLink2Description: http://search.murata.co.jp/Ceramy/image/img/P02/JELF243B-9117.pdf?src-supplier=Digikey
footprint RES_0402
pins: 1, 2 1

## IND_10uH_3.2A_20%_25mOhm
designator L?, comment SRN6045TA-100M
General Purpose Inductor, 10uH, 20%, 1 Element, Ferrite-Core, SMD, 2424; Manufacturer: Bourns; DC Resistance (DCR): 52mR; Inductor Application: POWER INDUCTOR; Channels: 1; Quality Factor-Min (at L-nom): 15; Max Current Rating: 3.2A; Self Resonant Frequency: 25MHz; Shape/Size Description: RECTANGULAR PACKAGE; Shielding: Shielded; Test Frequency: 1MHz; Reference Standard: AEC-Q200; Supplier: Avnet; Supplier Part Number: SRN6045TA-100M; Manufacturer Part Number: SRN6045TA-100M; RoHS: Yes; Category: Fixed Inductors; Stock: 3000; Pricing: 1000=0.21598, 2000=0.21142, 4000=0.19149, 6000=0.18726, 8000=0.18304, 10000=0.17882, 100000=0.176 (USD); Pins: 2; Core Material: Ferrite; Terminal Finish: Tin; Min Operating Temperature: -55°C; Max Operating Temperature: 125°C; Tolerance: 20%; JESD-609 Code: e3; Inductance-Nom (L): 10uH; Inductor Type: GENERAL PURPOSE INDUCTOR; Surface Mount: Yes; Terminal Placement: Dual Ended; Termination: One Surface; Reach SVHC Compliant: Yes; RoHS Compliant: Yes; ComponentLink1URL: https://datasheet.ciiva.com:443/pdfs/VipMasterIC/IC/BOUR/BOUR-S-A0008509695/BOUR-S-A0008509695-1.pdf?src-supplier=IHS+Markit; ComponentLink1Description: https://datasheet.ciiva.com:443/pdfs/VipMasterIC/IC/BOUR/BOUR-S-A0008509695/BOUR-S-A0008509695-1.pdf?src-supplier=IHS+Markit; ComponentLink2URL: http://www.farnell.com/datasheets/2647414.pdf?src-supplier=Farnell; ComponentLink2Description: http://www.farnell.com/datasheets/2647414.pdf?src-supplier=Farnell; ComponentLink3URL: https://www.bourns.com/docs/Product-Datasheets/SRN6045TA.pdf?src-supplier=Digikey; ComponentLink3Description: https://www.bourns.com/docs/Product-Datasheets/SRN6045TA.pdf?src-supplier=Digikey; ComponentLink4URL: http://www.farnell.com/datasheets/2647414.pdf?src-supplier=Element14; ComponentLink4Description: http://www.farnell.com/datasheets/2647414.pdf?src-supplier=Element14
footprint ind 7.3mm*7.3mm
pins: 1, 2 1